# EAGLE library part WE-RJ45_7499110123 (library 7499511611A_Eagle_WE-RJ45_rev20a)
WE-RJ45 LAN Transformer Characteristics RJ45 Connector with integrated transformer / common mode choke Power over Ethernet up to 50 Watt and speeds up to 10 Gbit/s Available in SMD, THT and THT with USB Compliant with standards: IEEE 802.3u, IEEE 802.3ab, IEEE 802.3af, IEEE 802.3at, IEEE 802.3an and upcoming IEE 802.3bt Applications Suitable for industrial temperatures from –40 °C up to +85 °C Compatible to Industrial Ethernet systems like EtherCAT or Profinet Compliant with most IC’s for Ethernet applications such as Microchip, Texas Instruments, Broadcom, Linear Technology Hubs, Routers, Switches, IP cameras, IoT applications <https://katalog.we-online.com/media/images/v2/o35731v209%20Family_WE-RJ45-LAN.jpg> Details see: https://katalog.we-online.com/en/pbs/WE-LAN-RJ45 Updated by Ella Wu 2019-08-05 2019 (C) Wurth Elektronik
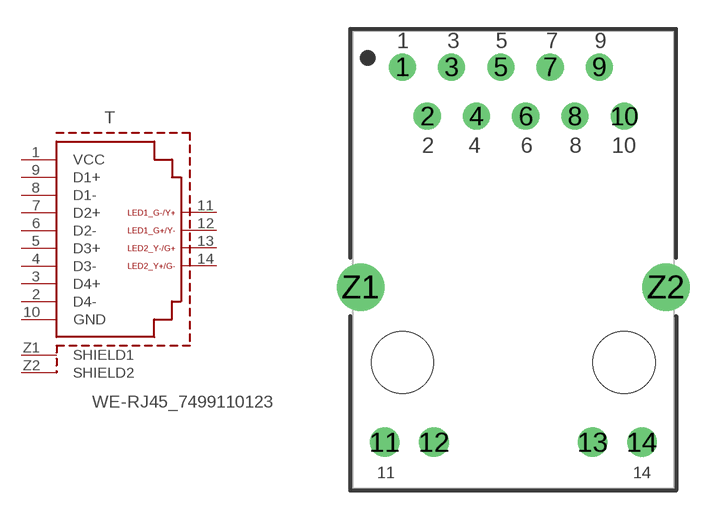
[diagram p52: symbol with the pads of 7499110123; footprint 7499110123]

Designator prefix T

## WE-RJ45_7499110123 (DATA-RATE: 10/100/1000 Base-T; DATASHEET-URL: https://www.we-online.com/catalog/datasheet/7499110123.pdf; LED: green-yellow; MOUNT: THT; PART-NUMBER: 7499110123; POE: non-PoE; PORTS: 1; USB: No)  [7499110123]
1  VCC
2  D4-
3  D4+
4  D3-
5  D3+
6  D2-
7  D2+
8  D1-
9  D1+
10  GND
11  LED1_G-/Y+
12  LED1_G+/Y-
13  LED2_Y-/G+
14  LED2_Y+/G-
Z1  SHIELD1  pwr
Z2  SHIELD2  pwr

## Footprint 7499110123 (pad centres in mm)
WE-RJ45 LAN Transformer 10/100/1000 Base-T
drill 0.89: 1 -5.72,15.24; 2 -4.44,12.7; 3 -3.18,15.24; 4 -1.9,12.7; 5 -0.64,15.24; 6 0.64,12.7; 7 1.9,15.24; 8 3.18,12.7; 9 4.44,15.24; 10 5.72,12.7
drill 1.02: 11 -6.635,-4.11; 12 -4.095,-4.11; 13 4.095,-4.11; 14 6.635,-4.11
drill 1.63: Z1 -7.875,3.89; Z2 7.875,3.89
hole 3.2 at -5.715,0
hole 3.2 at 5.715,0